# Altium footprint library AdamsParts.PcbLib: 238 footprints (part 10 of 15)
Each footprint in its own frame and in the unit in brackets; x right, y up, seen from the top. Pads: shape width x height; smd on the part's side, far side on the other; paste and mask are expansions set on the pad; w line width, h text height; cw(c..) or ccw(c..) is an arc to the next point about the centre after c.
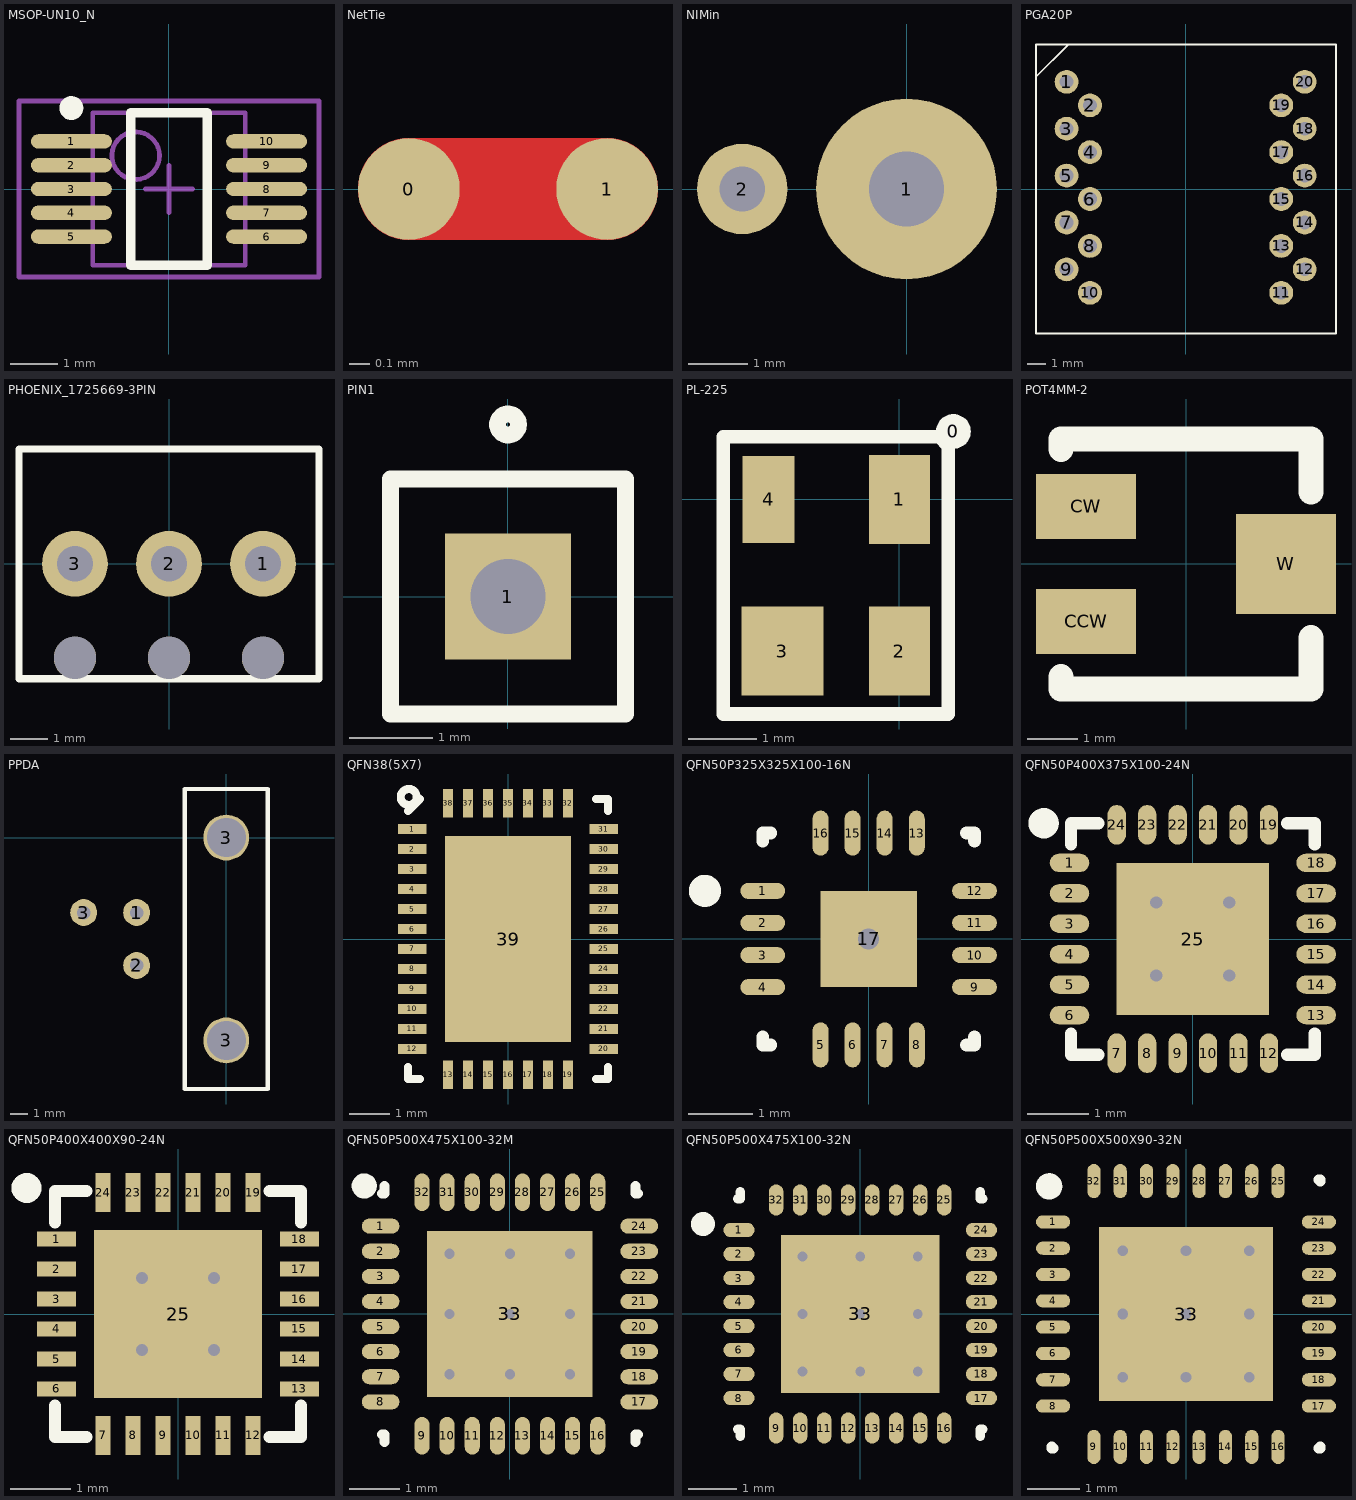
[diagram p9: the footprints below, top view; thin cyan lines are the x and y axes]

## MSOP-UN10_N [mm] "TSSOP, 10-Leads, Body 3x3mm, Pitch 0.5mm, IPC Medium Density"
height 1.1
pads (10):
  oval 1.7x0.3 smd: 1(-2.05,1) 2(-2.05,0.5) 3(-2.05,0) 4(-2.05,-0.5) 5(-2.05,-1) 6(2.05,-1) 7(2.05,-0.5) 8(2.05,0) 9(2.05,0.5) 10(2.05,1)
Top Overlay:
  circle w0.25: c-2.05,1.7 r0.125
  lines w0.2: -0.8,-1.6 0.8,-1.6 0.8,1.6 -0.8,1.6 -0.8,-1.6
Mechanical 13:
  circle w0.1: c-0.7,0.7 r0.5
  lines w0.1: -1.6,-1.6 1.6,-1.6 1.6,1.6 -1.6,1.6 -1.6,-1.6
Mechanical 15:
  lines w0.1: -0.5,0 0.5,0 ; 0,-0.5 0,0.5 ; -3.15,-1.85 3.15,-1.85 3.15,1.85 -3.15,1.85 -3.15,-1.85
3D body: height 1.1, standoff 0, extent -1.6,-1.6 1.6,1.6

## NetTie [mil]
pads (2):
  round 20 smd: 0(-150,0) 1(-111,0)
Top Layer:
  lines w20: -150,0 -111,0

## NIMin [mil]
pads (2):
  round 120 hole 50: 1(0,0)
  round 60 hole 30: 2(-109,0)

## PGA20P [mm] "SenseL 16 Cell Optical Array"
pads (20):
  round 1.27 hole 0.737: 1(-6.35,5.715) 2(-5.1,4.465) 3(-6.35,3.215) 4(-5.1,1.965) 5(-6.35,0.715) 6(-5.1,-0.535) 7(-6.35,-1.785) 8(-5.1,-3.035) 9(-6.35,-4.285) 10(-5.1,-5.535) 11(5.1,-5.535) 12(6.35,-4.285) 13(5.1,-3.035) 14(6.35,-1.785) 15(5.1,-0.535) 16(6.35,0.715) 17(5.1,1.965) 18(6.35,3.215) 19(5.1,4.465) 20(6.35,5.715)
Top Overlay:
  lines w0.102: -7.98,5.715 -7.98,5.99 -6.27,7.7 -5.715,7.7 ; -7.98,-7.7 8.02,-7.7 8.02,7.7 -7.98,7.7 -7.98,-7.7

## PHOENIX_1725669-3PIN [mil]
pads (6):
  round 70 hole 38: 1(100,0) 2(0,0) 3(-100,0)
  round 45 hole 45 unplated: ""(-100,-100) ""(0,-100) ""(100,-100)
Top Overlay:
  lines w7.87: -159.45,-122.05 -159.45,122.05 159.45,122.05 159.45,-122.05 -159.45,-122.05

## PIN1 [mm]
pads (1):
  rect 1.5x1.5 hole 0.889: 1(0,0)
Top Overlay:
  circle w0.2: c0,2.05 r0.125
  lines w0.2: -1.4,-1.4 1.4,-1.4 1.4,1.4 -1.4,1.4 -1.4,-1.4

## PL-225 [mil] "Minicircuits 4 pin  SOT143"
pads (5):
  round 20 on Top Overlay: 0(31,39)
  rect 35x51 smd: 1(0,0) 2(0,-87)
  rect 47x51 smd: 3(-67,-87)
  rect 30x50 smd: 4(-75,0)
Top Overlay:
  lines w7.87: -101,-123 28,-123 28,31 23,36 -101,36 -101,-123

## POT4MM-2 [mm]
pads (3):
  rect 2x1.3 smd: CCW(-2,-1.15) CW(-2,1.15)
  rect 2x2 smd: W(2,0)
Top Overlay:
  lines w0.508: -2.5,-2.251 -2.5,-2.5 2.5,-2.5 2.5,-1.475 ; -2.5,2.295 -2.5,2.5 2.5,2.5 2.5,1.441

## PPDA [mm] "Photodiode with pigtail"
height 7.2
pads (5):
  round 1.524 hole 0.762: 1(-5.08,-4.25) 2(-5.08,-7.25) 3(-8.08,-4.25)
  round 2.6 hole 2.21: 3(0,-11.5) 3(0,0)
Top Overlay:
  lines w0.254: -2.35,-14.25 2.35,-14.25 2.35,2.75 -2.35,2.75 -2.35,-14.25

## QFN38(5X7) [mm]
pads (39):
  rect 0.711x0.254 smd: 1(-2.4,2.75) 2(-2.4,2.25) 3(-2.4,1.75) 4(-2.4,1.25) 5(-2.4,0.75) 6(-2.4,0.25) 7(-2.4,-0.25) 8(-2.4,-0.75) 9(-2.4,-1.25) 10(-2.4,-1.75) 11(-2.4,-2.25) 12(-2.4,-2.75) 20(2.4,-2.75) 21(2.4,-2.25) 22(2.4,-1.75) 23(2.4,-1.25) 24(2.4,-0.75) 25(2.4,-0.25) 26(2.4,0.25) 27(2.4,0.75) 28(2.4,1.25) 29(2.4,1.75) 30(2.4,2.25) 31(2.4,2.75)
  rect 0.254x0.711 smd: 13(-1.5,-3.4) 14(-1,-3.4) 15(-0.5,-3.4) 16(0,-3.4) 17(0.5,-3.4) 18(1,-3.4) 19(1.5,-3.4) 32(1.5,3.4) 33(1,3.4) 34(0.5,3.4) 35(0,3.4) 36(-0.5,3.4) 37(-1,3.4) 38(-1.5,3.4)
  rect 3.15x5.15 smd: 39(0,0)
Top Overlay:
  circle w0.2: c-2.486,3.556 r0.2
  lines w0.2: -2.5,-3.2 -2.5,-3.5 -2.2,-3.5 ; -2.5,3.2 -2.2,3.5 ; 2.2,-3.5 2.5,-3.5 2.5,-3.2 ; 2.2,3.5 2.5,3.5 2.5,3.2

## QFN50P325X325X100-16N [mm] "QFN, 16-Leads, Body 3.3x3.3mm (max), Pitch 0.50mm, IPC Medium Density"
height 1
pads (17):
  oval 0.7x0.25 smd: 1(-1.65,0.75) 2(-1.65,0.25) 3(-1.65,-0.25) 4(-1.65,-0.75) 9(1.65,-0.75) 10(1.65,-0.25) 11(1.65,0.25) 12(1.65,0.75)
  oval 0.25x0.7 smd: 5(-0.75,-1.65) 6(-0.25,-1.65) 7(0.25,-1.65) 8(0.75,-1.65) 13(0.75,1.65) 14(0.25,1.65) 15(-0.25,1.65) 16(-0.75,1.65)
  rect 1.5x1.5 smd: 17(0,0)
via 0,0 diameter 0.66 hole 0.33
Top Overlay:
  circle w0.25: c-2.55,0.75 r0.125
  lines w0.2: -1.65,-1.525 -1.65,-1.65 -1.525,-1.65 ; -1.65,1.525 -1.65,1.65 -1.525,1.65 ; 1.525,-1.65 1.65,-1.65 1.65,-1.525 ; 1.525,1.65 1.65,1.65 1.65,1.525

## QFN50P400X375X100-24N [mm] "QFN, 24-Leads, Body 3.8x4.0mm (max), Pitch 0.50mm, IPC Medium Density"
height 1
pads (25):
  oval 0.65x0.3 smd: 1(-2.025,1.25) 2(-2.025,0.75) 3(-2.025,0.25) 4(-2.025,-0.25) 5(-2.025,-0.75) 6(-2.025,-1.25) 13(2.025,-1.25) 14(2.025,-0.75) 15(2.025,-0.25) 16(2.025,0.25) 17(2.025,0.75) 18(2.025,1.25)
  oval 0.3x0.65 smd: 7(-1.25,-1.875) 8(-0.75,-1.875) 9(-0.25,-1.875) 10(0.25,-1.875) 11(0.75,-1.875) 12(1.25,-1.875) 19(1.25,1.875) 20(0.75,1.875) 21(0.25,1.875) 22(-0.25,1.875) 23(-0.75,1.875) 24(-1.25,1.875)
  rect 2.5x2.5 smd: 25(0,0)
via 0.6,-0.6 diameter 0.66 hole 0.203
via -0.6,-0.6 diameter 0.66 hole 0.203
via 0.6,0.6 diameter 0.66 hole 0.203
via -0.6,0.6 diameter 0.66 hole 0.203
Top Overlay:
  circle w0.25: c-2.45,1.9 r0.125
  lines w0.2: -2,-1.55 -2,-1.9 -1.55,-1.9 ; -2,1.55 -2,1.9 -1.55,1.9 ; 1.55,-1.9 2,-1.9 2,-1.55 ; 1.55,1.9 2,1.9 2,1.55

## QFN50P400X400X90-24N [mm] "QFN, 24-Leads, Body 4.1x4.1mm (max), Pitch 0.50mm, IPC Medium Density"
height 0.9
pads (25):
  rect 0.65x0.25 smd: 1(-2.025,1.25) 2(-2.025,0.75) 3(-2.025,0.25) 4(-2.025,-0.25) 5(-2.025,-0.75) 6(-2.025,-1.25) 13(2.025,-1.25) 14(2.025,-0.75) 15(2.025,-0.25) 16(2.025,0.25) 17(2.025,0.75) 18(2.025,1.25)
  rect 0.25x0.65 smd: 7(-1.25,-2.025) 8(-0.75,-2.025) 9(-0.25,-2.025) 10(0.25,-2.025) 11(0.75,-2.025) 12(1.25,-2.025) 19(1.25,2.025) 20(0.75,2.025) 21(0.25,2.025) 22(-0.25,2.025) 23(-0.75,2.025) 24(-1.25,2.025)
  rect 2.8x2.8 smd: 25(0,0)
via 0.6,-0.6 diameter 0.66 hole 0.203
via -0.6,-0.6 diameter 0.66 hole 0.203
via 0.6,0.6 diameter 0.66 hole 0.203
via -0.6,0.6 diameter 0.66 hole 0.203
Top Overlay:
  circle w0.25: c-2.525,2.1 r0.125
  lines w0.2: -2.05,-1.525 -2.05,-2.05 -1.525,-2.05 ; -2.05,1.525 -2.05,2.05 -1.525,2.05 ; 1.525,-2.05 2.05,-2.05 2.05,-1.525 ; 1.525,2.05 2.05,2.05 2.05,1.525

## QFN50P500X475X100-32M [mm] "QFN, 32-Leads, Body 4.8x5.0mm (max), Pitch 0.50mm, IPC Low Density"
height 1
pads (33):
  oval 0.75x0.3 smd: 1(-2.575,1.75) 2(-2.575,1.25) 3(-2.575,0.75) 4(-2.575,0.25) 5(-2.575,-0.25) 6(-2.575,-0.75) 7(-2.575,-1.25) 8(-2.575,-1.75) 17(2.575,-1.75) 18(2.575,-1.25) 19(2.575,-0.75) 20(2.575,-0.25) 21(2.575,0.25) 22(2.575,0.75) 23(2.575,1.25) 24(2.575,1.75)
  oval 0.3x0.75 smd: 9(-1.75,-2.425) 10(-1.25,-2.425) 11(-0.75,-2.425) 12(-0.25,-2.425) 13(0.25,-2.425) 14(0.75,-2.425) 15(1.25,-2.425) 16(1.75,-2.425) 25(1.75,2.425) 26(1.25,2.425) 27(0.75,2.425) 28(0.25,2.425) 29(-0.25,2.425) 30(-0.75,2.425) 31(-1.25,2.425) 32(-1.75,2.425)
  rect 3.3x3.3 smd: 33(0,0)
via 1.2,-1.2 diameter 0.66 hole 0.203
via 0,-1.2 diameter 0.66 hole 0.203
via -1.2,-1.2 diameter 0.66 hole 0.203
via 1.2,0 diameter 0.66 hole 0.203
via 0,0 diameter 0.66 hole 0.203
via -1.2,0 diameter 0.66 hole 0.203
via 1.2,1.2 diameter 0.66 hole 0.203
via 0,1.2 diameter 0.66 hole 0.203
via -1.2,1.2 diameter 0.66 hole 0.203
Top Overlay:
  circle w0.25: c-2.9,2.55 r0.125
  lines w0.2: -2.55,-2.4 -2.5,-2.4 -2.5,-2.55 ; -2.55,2.4 -2.5,2.4 -2.5,2.55 ; 2.5,-2.55 2.5,-2.4 2.55,-2.4 ; 2.5,2.55 2.5,2.4 2.55,2.4

## QFN50P500X475X100-32N [mm] "QFN, 32-Leads, Body 4.8x5.0mm (max), Pitch 0.50mm, IPC Medium Density"
height 1
pads (33):
  oval 0.65x0.3 smd: 1(-2.525,1.75) 2(-2.525,1.25) 3(-2.525,0.75) 4(-2.525,0.25) 5(-2.525,-0.25) 6(-2.525,-0.75) 7(-2.525,-1.25) 8(-2.525,-1.75) 17(2.525,-1.75) 18(2.525,-1.25) 19(2.525,-0.75) 20(2.525,-0.25) 21(2.525,0.25) 22(2.525,0.75) 23(2.525,1.25) 24(2.525,1.75)
  oval 0.3x0.65 smd: 9(-1.75,-2.375) 10(-1.25,-2.375) 11(-0.75,-2.375) 12(-0.25,-2.375) 13(0.25,-2.375) 14(0.75,-2.375) 15(1.25,-2.375) 16(1.75,-2.375) 25(1.75,2.375) 26(1.25,2.375) 27(0.75,2.375) 28(0.25,2.375) 29(-0.25,2.375) 30(-0.75,2.375) 31(-1.25,2.375) 32(-1.75,2.375)
  rect 3.3x3.3 smd: 33(0,0)
via -1.2,1.2 diameter 0.66 hole 0.203
via 0,1.2 diameter 0.66 hole 0.203
via 1.2,1.2 diameter 0.66 hole 0.203
via -1.2,0 diameter 0.66 hole 0.203
via 0,0 diameter 0.66 hole 0.203
via 1.2,0 diameter 0.66 hole 0.203
via -1.2,-1.2 diameter 0.66 hole 0.203
via 0,-1.2 diameter 0.66 hole 0.203
via 1.2,-1.2 diameter 0.66 hole 0.203
Top Overlay:
  circle w0.25: c-3.275,1.875 r0.125
  lines w0.2: -2.55,-2.4 -2.5,-2.4 -2.5,-2.55 ; -2.55,2.4 -2.5,2.4 -2.5,2.55 ; 2.5,-2.55 2.5,-2.4 2.55,-2.4 ; 2.5,2.55 2.5,2.4 2.55,2.4

## QFN50P500X500X90-32N [mm] "QFN, 32-Leads, Body 5.1x5.1mm (max), Pitch 0.50mm, IPC Medium Density"
height 0.9
pads (33):
  oval 0.65x0.25 smd: 1(-2.525,1.75) 2(-2.525,1.25) 3(-2.525,0.75) 4(-2.525,0.25) 5(-2.525,-0.25) 6(-2.525,-0.75) 7(-2.525,-1.25) 8(-2.525,-1.75) 17(2.525,-1.75) 18(2.525,-1.25) 19(2.525,-0.75) 20(2.525,-0.25) 21(2.525,0.25) 22(2.525,0.75) 23(2.525,1.25) 24(2.525,1.75)
  oval 0.25x0.65 smd: 9(-1.75,-2.525) 10(-1.25,-2.525) 11(-0.75,-2.525) 12(-0.25,-2.525) 13(0.25,-2.525) 14(0.75,-2.525) 15(1.25,-2.525) 16(1.75,-2.525) 25(1.75,2.525) 26(1.25,2.525) 27(0.75,2.525) 28(0.25,2.525) 29(-0.25,2.525) 30(-0.75,2.525) 31(-1.25,2.525) 32(-1.75,2.525)
  rect 3.3x3.3 smd: 33(0,0)
via -1.2,1.2 diameter 0.406 hole 0.203
via 0,1.2 diameter 0.406 hole 0.203
via 1.2,1.2 diameter 0.406 hole 0.203
via -1.2,0 diameter 0.406 hole 0.203
via 0,0 diameter 0.406 hole 0.203
via 1.2,0 diameter 0.406 hole 0.203
via -1.2,-1.2 diameter 0.406 hole 0.203
via 0,-1.2 diameter 0.406 hole 0.203
via 1.2,-1.2 diameter 0.406 hole 0.203
Top Overlay:
  circle w0.25: c-2.6,2.425 r0.125
  lines w0.2: -2.55,-2.525 -2.55,-2.55 -2.525,-2.55 ; -2.55,2.525 -2.55,2.55 -2.525,2.55 ; 2.525,-2.55 2.55,-2.55 2.55,-2.525 ; 2.525,2.55 2.55,2.55 2.55,2.525